# EAGLE library part REDBEAR_CON5X2 (library TRACKER SOM EVAL BOARD v1.0)
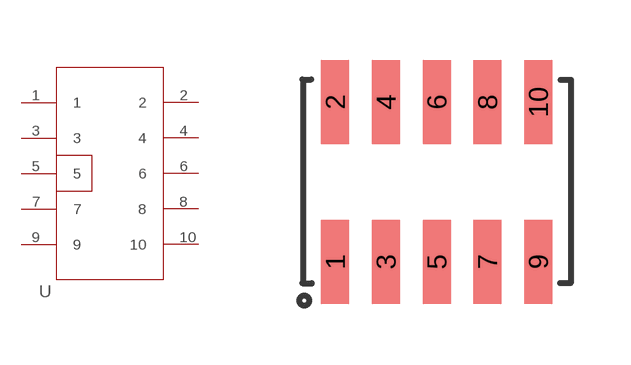
[diagram p5: symbol with the pads of REDBEAR_CON5X2_1.27; footprint REDBEAR_CON5X2_1.27]

Designator prefix -

## REDBEAR_CON5X2  [REDBEAR_CON5X2_1.27]
1  1
2  2
3  3
4  4
5  5
6  6
7  7
8  8
9  9
10  10

## Footprint REDBEAR_CON5X2_1.27 (pad centres in mm)
smd 0.7 x 2.1: 1 -2.54,-2; 2 -2.54,2; 3 -1.27,-2; 4 -1.27,2; 5 0,-2; 6 0,2; 7 1.27,-2; 8 1.27,2; 9 2.54,-2; 10 2.54,2